# EAGLE library part AL5801-CONSTANT_CURRENT_SINK (library boydcircuits)
IC Breakout SOT23-6
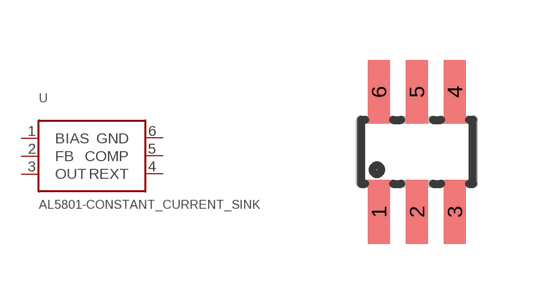
[diagram p3: symbol with the pads of SOT23-6; footprint SOT23-6]

Designator prefix U

## AL5801-CONSTANT_CURRENT_SINK  [SOT23-6]
1  BIAS
2  FB
3  OUT
4  REXT
5  COMP
6  GND

## Footprint SOT23-6 (pad centres in mm)
smd 0.55 x 1.6: 1 -0.95,-1.5; 2 0,-1.5; 3 0.95,-1.5; 4 0.95,1.5; 5 0,1.5; 6 -0.95,1.5